# Altium schematic symbol library Symbol.SchLib: 1 symbol
Pins are listed as number, name and electrical type; pins without a type are passive.

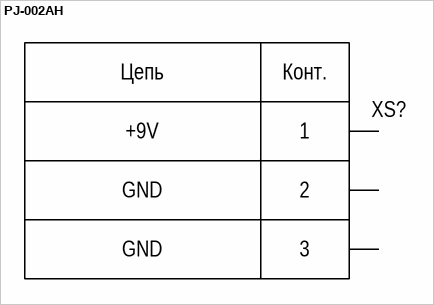
[diagram p0: symbol PJ-002AH]

## PJ-002AH
designator XS?  (value not drawn)
DC POWER JACK
footprint PJ-002AH (Same Sky) (Connector, 3-Leads, Body 14.40x9.00 mm)
pins: 1 +9V, 2 GND, 3 GND
text: Цепь; Конт.